# EAGLE library part PL2303SA (library densikit)
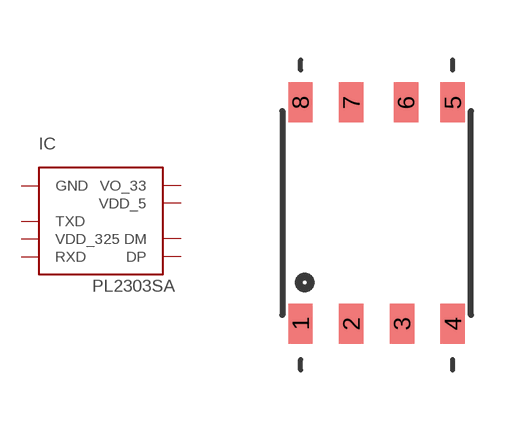
[diagram p10: symbol with the pads of SO08-MINI; footprint SO08-MINI]

Designator prefix IC

## PL2303SA  [SO08-MINI]
1  GND  pwr
2  TXD
3  VDD_325
4  RXD
5  DP
6  DM
7  VDD_5  pwr
8  VO_33  pwr

## Footprint SO08-MINI (pad centres in mm)
smd 0.61 x 1: 1 -1.905,-2.778; 2 -0.635,-2.778; 3 0.635,-2.778; 4 1.905,-2.778; 5 1.905,2.753; 6 0.735,2.753; 7 -0.635,2.753; 8 -1.905,2.753